# Altium footprint library VCNL36687S.PcbLib: 1 footprints
Each footprint in its own frame and in the unit in brackets; x right, y up, seen from the top. Pads: shape width x height; smd on the part's side, far side on the other; paste and mask are expansions set on the pad; w line width, h text height; cw(c..) or ccw(c..) is an arc to the next point about the centre after c.
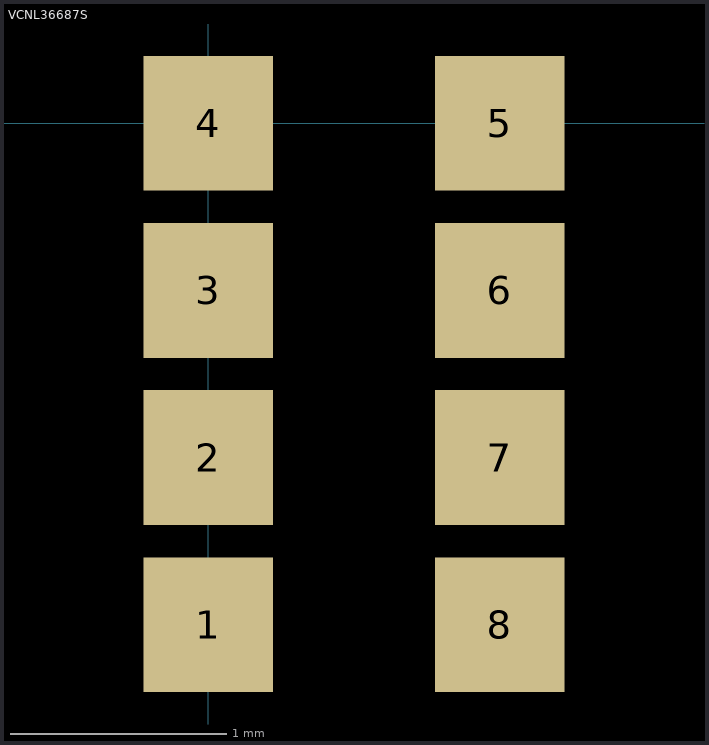
[diagram p0: the footprint, top view; thin cyan lines are the x and y axes]

## VCNL36687S [mm]
pads (8):
  rect 0.6x0.625 smd: 1(0,-2.325) 2(0,-1.55) 3(0,-0.775) 4(0,0) 5(1.35,0) 6(1.35,-0.775) 7(1.35,-1.55) 8(1.35,-2.325)
3D body "sensor proximidad VCNL36687S.STEP": height 1.05, standoff -0.01, extent -0.325,-2.675 1.675,0.375